# Altium footprint library DDS1.PcbLib: 136 footprints (part 1 of 9)
Each footprint in its own frame and in the unit in brackets; x right, y up, seen from the top. Pads: shape width x height; smd on the part's side, far side on the other; paste and mask are expansions set on the pad; w line width, h text height; cw(c..) or ccw(c..) is an arc to the next point about the centre after c.
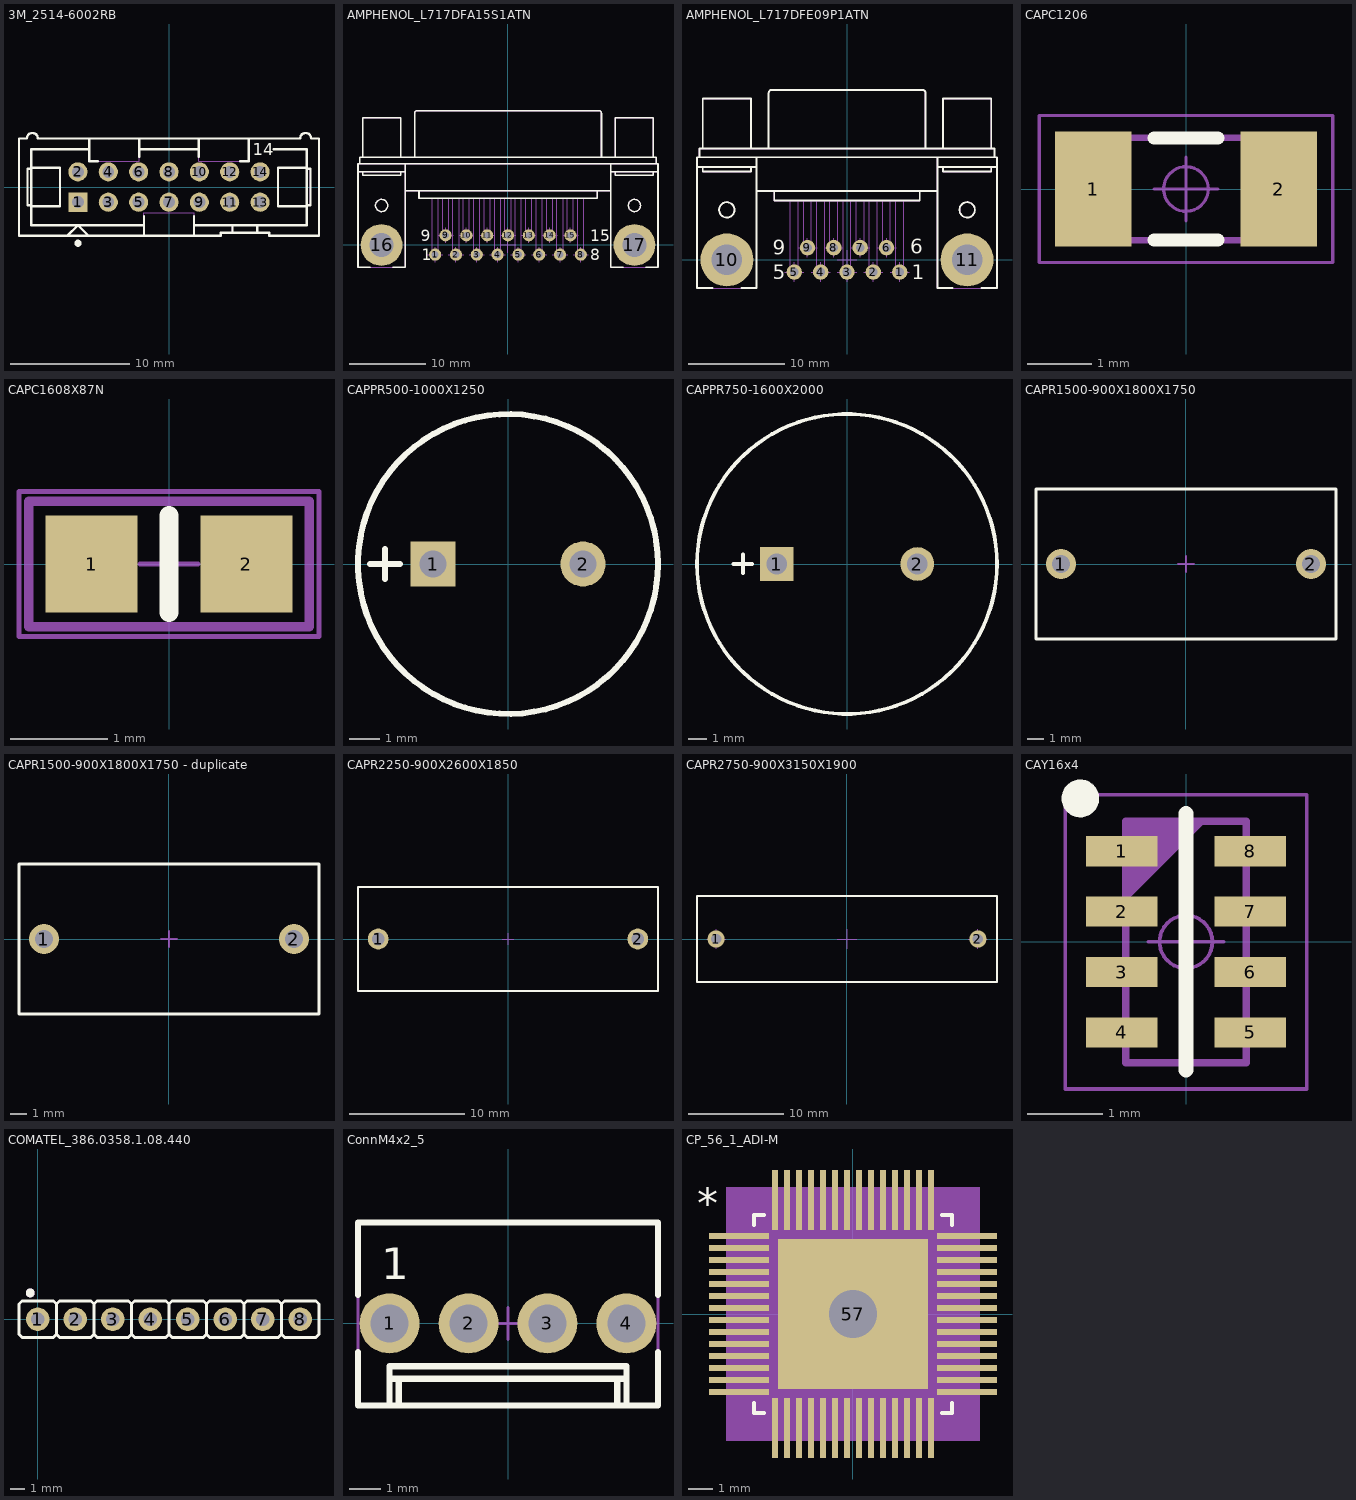
[diagram p0: the footprints below, top view; thin cyan lines are the x and y axes]

## 3M_2514-6002RB [mm] "14 Contacts - Straight .100\" x .100\" Low Profile Four-Wall Header"
height 10.03
pads (14):
  rect 1.6x1.6 hole 1: 1(-7.62,-1.27)
  round 1.6 hole 1: 2(-7.62,1.27) 3(-5.08,-1.27) 4(-5.08,1.27) 5(-2.54,-1.27) 6(-2.54,1.27) 7(0,-1.27) 8(0,1.27) 9(2.54,-1.27) 10(2.54,1.27) 11(5.08,-1.27) 12(5.08,1.27) 13(7.62,-1.27) 14(7.62,1.27)
Top Overlay:
  circle w0.3: c-7.62,-4.699 r0.15
  lines w0.2: -11.532,-1.603 -9.119,-1.603 -9.119,1.603 -11.532,1.603 ; -11.532,-1.524 -11.836,-1.524 -11.836,1.524 -11.532,1.524 ; -8.484,-4.064 -7.62,-3.2 -6.756,-4.064 ; -6.668,3.15 -11.532,3.15 -11.532,-3.2 -2.096,-3.2 ; -6.668,4.064 -6.668,2.159 -5.959,2.159 ; -2.477,2.518 -2.477,4.064 ; -2.477,3.15 2.476,3.15 ; -2.096,-4.064 -2.096,-2.438 ; 2.095,-4.064 2.095,-2.438 ; 2.095,-3.2 11.532,-3.2 11.532,3.15 8.763,3.15 ; 2.476,2.518 2.476,4.064 ; 5.309,-3.835 5.309,-3.2 ; 5.959,2.159 6.668,2.159 6.668,4.064 ; 7.391,-3.835 7.391,-3.2 ; 11.532,-1.603 9.119,-1.603 9.119,1.603 11.532,1.603 ; 11.532,-1.524 11.836,-1.524 11.836,1.524 11.532,1.524 ; -12.548,-4.064 4.318,-4.064 4.318,-3.835 8.382,-3.835 8.382,-4.064 12.548,-4.064 12.548,4.064 11.887,4.064 ccw(c11.43,4.064) 10.973,4.064 -10.973,4.064 ccw(c-11.43,4.064) -11.887,4.064 -12.548,4.064 -12.548,-4.064
  text "14" at 6.985,2.667 h1.02
Mechanical 14:
  lines w0.1: -11.532,-1.603 -9.119,-1.603 -9.119,1.603 -11.532,1.603 ; -11.532,-1.524 -11.836,-1.524 -11.836,1.524 -11.532,1.524 ; -8.484,-4.064 -7.62,-3.2 -6.756,-4.064 ; -6.668,3.15 -11.532,3.15 -11.532,-3.2 -2.096,-3.2 ; -6.668,4.064 -6.668,2.159 -2.477,2.159 -2.477,4.064 ; -2.477,3.15 2.476,3.15 ; -2.096,-4.064 -2.096,-2.159 2.095,-2.159 2.095,-4.064 ; 2.095,-3.2 11.532,-3.2 11.532,3.15 8.763,3.15 ; 2.476,4.064 2.476,2.159 6.668,2.159 6.668,4.064 ; 5.309,-3.835 5.309,-3.2 ; 7.391,-3.835 7.391,-3.2 ; 11.532,-1.603 9.119,-1.603 9.119,1.603 11.532,1.603 ; 11.532,-1.524 11.836,-1.524 11.836,1.524 11.532,1.524 ; -12.548,-4.064 4.318,-4.064 4.318,-3.835 8.382,-3.835 8.382,-4.064 12.548,-4.064 12.548,4.064 11.887,4.064 ccw(c11.43,4.064) 10.973,4.064 -10.973,4.064 ccw(c-11.43,4.064) -11.887,4.064 -12.548,4.064 -12.548,-4.064
  text "14" at 6.985,2.667 h1.02
3D body "3M_2514-6002RB.stp": height 9.65, standoff -2.59, extent -12.548,-4.572 12.548,4.064

## AM15E [mm] "TEN 15 Series , Body 50.8x25.4mm, Height 10.7mm"
height 10.7
pads (5):
  rect 1.8x1.8 hole 1.3: 1(0,0)
  round 1.8 hole 1.3: 2(0,5.08) 3(20.32,-7.62) 4(20.32,2.54) 5(20.32,12.7)
Top Layer:
  drawing of 50 lines, arcs and shapes, not listed
  text "Simmetricamente 2x2x68 &1n5" at -1259.84,-1267.46 h1.52
Top Overlay:
  lines w0.2: -15.24,-9.16 ccw(c-14.24,-9.16) -14.24,-10.16 34.56,-10.16 ccw(c34.56,-9.16) 35.56,-9.16 35.56,14.24 ccw(c34.56,14.24) 34.56,15.24 -14.24,15.24 ccw(c-14.24,14.24) -15.24,14.24 -15.24,-9.16
  text "+VIN" at -5.34,-0.56 h1.2
  text "+VOUT" at 21.72,-8.135 h1.2
  text "-VOUT" at 21.72,12.185 h1.2
  text "-VIN" at -5.34,4.44 h1.2
Mechanical 14:
  lines w0.1: -15.24,-9.16 ccw(c-14.24,-9.16) -14.24,-10.16 34.56,-10.16 ccw(c34.56,-9.16) 35.56,-9.16 35.56,14.24 ccw(c34.56,14.24) 34.56,15.24 -14.24,15.24 ccw(c-14.24,14.24) -15.24,14.24 -15.24,-9.16
  text "-VIN" at -5.34,4.44 h1.2
  text "+VIN" at -5.34,-0.56 h1.2
  text "-VOUT" at 21.72,12.185 h1.2
  text "+VOUT" at 21.72,-8.135 h1.2
Mechanical 15:
  lines w0.05: -15.74,-10.66 -15.74,15.74 36.06,15.74 36.06,-10.66 -15.74,-10.66
3D body "DCDC_TRACO_TEN15.stp": height 10.2, standoff -3.8, extent -15.24,-10.16 35.56,15.24

## AMPHENOL_L717DFA15S1ATN [mm] "Right Angled D-Sub 15 Female Contacts with Metal Bracket and Front Female Screwlock (UNC4-40)"
height 13.4
pads (17):
  round 1.6 hole 0.9: 1(-9.59,-1.27) 2(-6.85,-1.27) 3(-4.11,-1.27) 4(-1.37,-1.27) 5(1.37,-1.27) 6(4.11,-1.27) 7(6.85,-1.27) 8(9.59,-1.27) 9(-8.22,1.27) 10(-5.48,1.27) 11(-2.74,1.27) 12(0,1.27) 13(2.74,1.27) 14(5.48,1.27) 15(8.22,1.27)
  round 5.5 hole 3.2: 16(-16.65,0) 17(16.65,0)
Top Overlay:
  circle w0.2: c16.65,5.2 r0.8
  circle w0.2: c-16.65,5.2 r0.8
  lines w0.2: -19.5,10.67 -19.5,11.57 19.5,11.57 19.5,10.67 ; -19.15,9.67 -19.15,9.17 -14.15,9.17 -14.15,9.67 ; -19.15,11.57 -19.15,16.77 -14.15,16.77 -14.15,11.57 ; -18.15,-2.93 -19.75,-2.93 -19.75,10.67 19.75,10.67 19.75,-2.93 18.15,-2.93 ; -15.15,-2.93 -13.55,-2.93 -13.55,10.67 ; -13.689,9.67 -19.75,9.67 -13.55,9.67 ; -13.55,7.17 13.55,7.17 ; -12.292,11.57 -12.292,17.37 cw(c-11.992,17.37) -11.992,17.67 12.011,17.67 cw(c12.011,17.37) 12.311,17.37 12.311,11.57 ; -11.72,7.17 -11.72,6.17 11.72,6.17 11.72,7.17 ; 13.55,9.67 19.75,9.67 ; 13.55,10.67 13.55,-2.93 15.15,-2.93 ; 14.15,9.67 14.15,9.17 19.15,9.17 19.15,9.67 ; 14.15,11.57 14.15,16.77 19.15,16.77 19.15,11.57
  text "15" at 10.841,0.508 h1.5
  text "8" at 10.841,-2.032 h1.5
  text "1" at -11.349,-2.032 h1.5
  text "9" at -11.476,0.508 h1.5
Mechanical 8:
  lines w0.1: -17.65,0 -16.65,0 ; -16.65,-1 -16.65,0 ; -16.65,1 -16.65,0 ; -15.65,0 -16.65,0 ; -10.59,-1.27 -9.59,-1.27 ; -9.59,-2.27 -9.59,-1.27 ; -9.59,-0.27 -9.59,-1.27 ; -9.22,1.27 -8.22,1.27 ; -8.59,-1.27 -9.59,-1.27 ; -8.22,0.27 -8.22,1.27 ; -8.22,2.27 -8.22,1.27 ; -7.85,-1.27 -6.85,-1.27 ; -7.22,1.27 -8.22,1.27 ; -6.85,-2.27 -6.85,-1.27 ; -6.85,-0.27 -6.85,-1.27 ; -6.48,1.27 -5.48,1.27 ; -5.85,-1.27 -6.85,-1.27 ; -5.48,0.27 -5.48,1.27 ; -5.48,2.27 -5.48,1.27 ; -5.11,-1.27 -4.11,-1.27 ; -4.48,1.27 -5.48,1.27 ; -4.11,-2.27 -4.11,-1.27 ; -4.11,-0.27 -4.11,-1.27 ; -3.74,1.27 -2.74,1.27 ; -3.11,-1.27 -4.11,-1.27 ; -2.74,0.27 -2.74,1.27 ; -2.74,2.27 -2.74,1.27 ; -2.37,-1.27 -1.37,-1.27 ; -1.74,1.27 -2.74,1.27 ; -1.37,-2.27 -1.37,-1.27 ; -1.37,-0.27 -1.37,-1.27 ; -1,0 0,0 ; -1,1.27 0,1.27 ; -0.37,-1.27 -1.37,-1.27 ; 0,-1 0,0 ; 0,0.27 0,1.27 ; 0,1 0,0 ; 0,2.27 0,1.27 ; 0.37,-1.27 1.37,-1.27 ; 1,0 0,0 ; 1,1.27 0,1.27 ; 1.37,-2.27 1.37,-1.27 ; 1.37,-0.27 1.37,-1.27 ; 1.74,1.27 2.74,1.27 ; 2.37,-1.27 1.37,-1.27 ; 2.74,0.27 2.74,1.27 ; 2.74,2.27 2.74,1.27 ; 3.11,-1.27 4.11,-1.27 ; 3.74,1.27 2.74,1.27 ; 4.11,-2.27 4.11,-1.27 ; 4.11,-0.27 4.11,-1.27 ; 4.48,1.27 5.48,1.27 ; 5.11,-1.27 4.11,-1.27 ; 5.48,0.27 5.48,1.27 ; 5.48,2.27 5.48,1.27 ; 5.85,-1.27 6.85,-1.27 ; 6.48,1.27 5.48,1.27 ; 6.85,-2.27 6.85,-1.27 ; 6.85,-0.27 6.85,-1.27 ; 7.22,1.27 8.22,1.27 ; 7.85,-1.27 6.85,-1.27 ; 8.22,0.27 8.22,1.27 ; 8.22,2.27 8.22,1.27 ; 8.59,-1.27 9.59,-1.27 ; 9.22,1.27 8.22,1.27 ; 9.59,-2.27 9.59,-1.27 ; 9.59,-0.27 9.59,-1.27 ; 10.59,-1.27 9.59,-1.27 ; 15.65,0 16.65,0 ; 16.65,-1 16.65,0 ; 16.65,1 16.65,0 ; 17.65,0 16.65,0
Mechanical 14:
  circle w0.1: c16.65,0 r1.6
  circle w0.1: c16.65,5.2 r0.8
  circle w0.1: c-16.65,5.2 r0.8
  circle w0.1: c-16.65,0 r1.6
  lines w0.1: -19.5,10.67 -19.5,11.57 19.5,11.57 19.5,10.67 ; -19.15,9.67 -19.15,9.17 -14.15,9.17 -14.15,9.67 ; -19.15,11.57 -19.15,16.77 -14.15,16.77 -14.15,11.57 ; -13.689,9.67 -19.75,9.67 -13.55,9.67 ; -13.55,7.17 13.55,7.17 ; -13.55,10.67 -13.55,-2.93 -19.75,-2.93 -19.75,10.67 19.75,10.67 19.75,-2.93 13.55,-2.93 13.55,10.67 ; -12.292,11.57 -12.292,17.37 cw(c-11.992,17.37) -11.992,17.67 12.011,17.67 cw(c12.011,17.37) 12.311,17.37 12.311,11.57 ; -11.72,7.17 -11.72,6.17 11.72,6.17 11.72,7.17 ; -9.99,6.17 -9.99,-1.27 ccw(c-9.59,-1.27) -9.19,-1.27 -9.19,6.17 ; -8.62,6.17 -8.62,1.27 ccw(c-8.22,1.27) -7.82,1.27 -7.82,6.17 ; -7.25,6.17 -7.25,-1.27 ccw(c-6.85,-1.27) -6.45,-1.27 -6.45,6.17 ; -5.88,6.17 -5.88,1.27 ccw(c-5.48,1.27) -5.08,1.27 -5.08,6.17 ; -4.51,6.17 -4.51,-1.27 ccw(c-4.11,-1.27) -3.71,-1.27 -3.71,6.17 ; -3.14,6.17 -3.14,1.27 ccw(c-2.74,1.27) -2.34,1.27 -2.34,6.17 ; -1.77,6.17 -1.77,-1.27 ccw(c-1.37,-1.27) -0.97,-1.27 -0.97,6.17 ; -0.4,6.17 -0.4,1.27 ccw(c0,1.27) 0.4,1.27 0.4,6.17 ; 0.97,6.17 0.97,-1.27 ccw(c1.37,-1.27) 1.77,-1.27 1.77,6.17 ; 2.34,6.17 2.34,1.27 ccw(c2.74,1.27) 3.14,1.27 3.14,6.17 ; 3.71,6.17 3.71,-1.27 ccw(c4.11,-1.27) 4.51,-1.27 4.51,6.17 ; 5.08,6.17 5.08,1.27 ccw(c5.48,1.27) 5.88,1.27 5.88,6.17 ; 6.45,6.17 6.45,-1.27 ccw(c6.85,-1.27) 7.25,-1.27 7.25,6.17 ; 7.82,6.17 7.82,1.27 ccw(c8.22,1.27) 8.62,1.27 8.62,6.17 ; 9.19,6.17 9.19,-1.27 ccw(c9.59,-1.27) 9.99,-1.27 9.99,6.17 ; 13.55,9.67 19.75,9.67 ; 14.15,9.67 14.15,9.17 19.15,9.17 19.15,9.67 ; 14.15,11.57 14.15,16.77 19.15,16.77 19.15,11.57
3D body "AMPHENOL_L717DFA15S1ATN.stp": height 13.45, standoff -3.95, extent -19.75,-2.93 19.75,17.67

## AMPHENOL_L717DFE09P1ATN [mm] "Right Angled D-Sub 9 Male Contacts with Metal Bracket and Front Female Screwlock (UNC4-40)"
height 13.4
pads (11):
  round 1.6 hole 0.9: 1(5.48,-1.27) 2(2.74,-1.27) 3(0,-1.27) 4(-2.74,-1.27) 5(-5.48,-1.27) 6(4.11,1.27) 7(1.37,1.27) 8(-1.37,1.27) 9(-4.11,1.27)
  round 5.5 hole 3.2: 10(-12.495,0) 11(12.495,0)
Top Overlay:
  circle w0.2: c-12.5,5.2 r0.8
  circle w0.2: c12.5,5.2 r0.8
  lines w0.2: -15.35,10.67 -15.35,11.57 15.35,11.57 15.35,10.67 ; -15,9.67 -15,9.17 -10,9.17 -10,9.67 ; -15,11.57 -15,16.77 -10,16.77 -10,11.57 ; -14,-2.93 -15.6,-2.93 -15.6,10.67 15.6,10.67 15.6,-2.93 14,-2.93 ; -11,-2.93 -9.4,-2.93 -9.4,10.67 ; -9.539,9.67 -15.6,9.67 -9.4,9.67 ; -9.4,7.17 9.4,7.17 ; -8.142,11.57 -8.142,17.37 cw(c-7.842,17.37) -7.842,17.67 7.861,17.67 cw(c7.861,17.37) 8.161,17.37 8.161,11.57 ; -7.57,7.17 -7.57,6.17 7.57,6.17 7.57,7.17 ; 9.4,9.67 15.6,9.67 ; 9.4,10.67 9.4,-2.93 11,-2.93 ; 10,9.67 10,9.17 15,9.17 15,9.67 ; 10,11.57 10,16.77 15,16.77 15,11.57
  text "6" at 6.604,0.635 h1.5
  text "5" at -7.747,-2.032 h1.5
  text "1" at 6.731,-2.032 h1.5
  text "9" at -7.747,0.508 h1.5
Mechanical 8:
  lines w0.1: -13.5,0 -12.5,0 ; -12.5,-1 -12.5,0 ; -12.5,1 -12.5,0 ; -11.5,0 -12.5,0 ; -6.48,-1.27 -5.48,-1.27 ; -5.48,-2.27 -5.48,-1.27 ; -5.48,-0.27 -5.48,-1.27 ; -5.11,1.27 -4.11,1.27 ; -4.48,-1.27 -5.48,-1.27 ; -4.11,0.27 -4.11,1.27 ; -4.11,2.27 -4.11,1.27 ; -3.74,-1.27 -2.74,-1.27 ; -3.11,1.27 -4.11,1.27 ; -2.74,-2.27 -2.74,-1.27 ; -2.74,-0.27 -2.74,-1.27 ; -2.37,1.27 -1.37,1.27 ; -1.74,-1.27 -2.74,-1.27 ; -1.37,0.27 -1.37,1.27 ; -1.37,2.27 -1.37,1.27 ; -1,-1.27 0,-1.27 ; -1,0 0,0 ; -0.37,1.27 -1.37,1.27 ; 0,-2.27 0,-1.27 ; 0,-1 0,0 ; 0,-0.27 0,-1.27 ; 0,1 0,0 ; 0.37,1.27 1.37,1.27 ; 1,-1.27 0,-1.27 ; 1,0 0,0 ; 1.37,0.27 1.37,1.27 ; 1.37,2.27 1.37,1.27 ; 1.74,-1.27 2.74,-1.27 ; 2.37,1.27 1.37,1.27 ; 2.74,-2.27 2.74,-1.27 ; 2.74,-0.27 2.74,-1.27 ; 3.11,1.27 4.11,1.27 ; 3.74,-1.27 2.74,-1.27 ; 4.11,0.27 4.11,1.27 ; 4.11,2.27 4.11,1.27 ; 4.48,-1.27 5.48,-1.27 ; 5.11,1.27 4.11,1.27 ; 5.48,-2.27 5.48,-1.27 ; 5.48,-0.27 5.48,-1.27 ; 6.48,-1.27 5.48,-1.27 ; 11.5,0 12.5,0 ; 12.5,-1 12.5,0 ; 12.5,1 12.5,0 ; 13.5,0 12.5,0
Mechanical 14:
  circle w0.1: c-12.5,0 r1.6
  circle w0.1: c-12.5,5.2 r0.8
  circle w0.1: c12.5,5.2 r0.8
  circle w0.1: c12.5,0 r1.6
  lines w0.1: -15.35,10.67 -15.35,11.57 15.35,11.57 15.35,10.67 ; -15,9.67 -15,9.17 -10,9.17 -10,9.67 ; -15,11.57 -15,16.77 -10,16.77 -10,11.57 ; -9.539,9.67 -15.6,9.67 -9.4,9.67 ; -9.4,7.17 9.4,7.17 ; -9.4,10.67 -9.4,-2.93 -15.6,-2.93 -15.6,10.67 15.6,10.67 15.6,-2.93 9.4,-2.93 9.4,10.67 ; -8.142,11.57 -8.142,17.37 cw(c-7.842,17.37) -7.842,17.67 7.861,17.67 cw(c7.861,17.37) 8.161,17.37 8.161,11.57 ; -7.57,7.17 -7.57,6.17 7.57,6.17 7.57,7.17 ; -5.88,6.17 -5.88,-1.27 ccw(c-5.48,-1.27) -5.08,-1.27 -5.08,6.17 ; -4.51,6.17 -4.51,1.27 ccw(c-4.11,1.27) -3.71,1.27 -3.71,6.17 ; -3.14,6.17 -3.14,-1.27 ccw(c-2.74,-1.27) -2.34,-1.27 -2.34,6.17 ; -1.77,6.17 -1.77,1.27 ccw(c-1.37,1.27) -0.97,1.27 -0.97,6.17 ; -0.4,6.17 -0.4,-1.27 ccw(c0,-1.27) 0.4,-1.27 0.4,6.17 ; 0.97,6.17 0.97,1.27 ccw(c1.37,1.27) 1.77,1.27 1.77,6.17 ; 2.34,6.17 2.34,-1.27 ccw(c2.74,-1.27) 3.14,-1.27 3.14,6.17 ; 3.71,6.17 3.71,1.27 ccw(c4.11,1.27) 4.51,1.27 4.51,6.17 ; 5.08,6.17 5.08,-1.27 ccw(c5.48,-1.27) 5.88,-1.27 5.88,6.17 ; 9.4,9.67 15.6,9.67 ; 10,9.67 10,9.17 15,9.17 15,9.67 ; 10,11.57 10,16.77 15,16.77 15,11.57
3D body "AMPHENOL_L717DFE09P1ATN.stp": height 13.45, standoff -3.95, extent -15.6,-2.93 15.6,17.67

## CAPC1206 [mm]
pads (2):
  rect 1.2x1.8 smd: 1(-1.45,0) 2(1.45,0)
Top Overlay:
  lines w0.2: -0.5,-0.8 0.5,-0.8 ; -0.5,0.8 0.5,0.8
Mechanical 14:
  lines w0.1: -1.6,-0.8 1.6,-0.8 1.6,0.8 -1.6,0.8 -1.6,-0.8
Mechanical 15:
  circle w0.05: c0,0 r0.35
  lines w0.05: -0.5,0 0.5,0 ; 0,-0.5 0,0.5 ; -2.3,-1.15 2.3,-1.15 2.3,1.15 -2.3,1.15 -2.3,-1.15
3D body "CAPC3216X70N.stp": height 0.7, standoff 0, extent -1.7,-0.9 1.7,0.9

## CAPC1608X87N [mm]
pads (2):
  rect 0.95x1 smd: 1(-0.8,0) 2(0.8,0)
Top Overlay:
  lines w0.2: 0,-0.5 0,0.5
Mechanical 14:
  lines w0.1: -1.45,-0.65 -1.45,0.65 1.45,0.65 1.45,-0.65 -1.45,-0.65
Mechanical 15:
  lines w0.05: -0.3,0 0.3,0 ; 0,-0.3 0,0.3 ; -1.55,-0.75 1.55,-0.75 1.55,0.75 -1.55,0.75 -1.55,-0.75
3D body "CAPC1608X87N.stp": height 0.87, standoff 0, extent -0.875,-0.475 0.875,0.475

## CAPPR500-1000X1250 [mm] "Capacitor, Radial, Pin spacing 5.0mm - Body Diameter 10.0mm X Body Height 12.5mm"
height 12.5
pads (2):
  rect 1.5x1.5 hole 0.9: 1(-2.5,0)
  round 1.5 hole 0.9: 2(2.5,0)
Top Overlay:
  circle w0.2: c0,0 r5
  lines w0.2: -4.6,0 -3.6,0 ; -4.1,-0.5 -4.1,0.5
Mechanical 13:
  circle w0.1: c0,0 r5
Mechanical 14:
  circle w0.1: c0,0 r5
  lines w0.1: -4.6,0 -3.6,0 ; -4.1,-0.5 -4.1,0.5
3D body "CAPPR500-1000X1250.stp": height 12.5, standoff -3.6, extent -5.01,-5.01 4.99,4.956

## CAPPR750-1600X2000 [mm] "Capacitor, Radial, Pin spacing 7.5mm - Body Diameter 16.0mm X Body  Height 20.0mm"
height 20
pads (2):
  rect 1.8x1.8 hole 1.1: 1(-3.75,0)
  round 1.8 hole 1.1: 2(3.75,0)
Top Overlay:
  circle w0.2: c0,0 r8
  lines w0.2: -6.05,0 -5.05,0 ; -5.55,-0.5 -5.55,0.5
Mechanical 13:
  circle w0.1: c0,0 r8
Mechanical 14:
  circle w0.1: c0,0 r8
  lines w0.1: -6.05,0 -5.05,0 ; -5.55,-0.5 -5.55,0.5
3D body "CAPPR750-1600X2000.stp": height 20, standoff -3.6, extent -8,-8 8,8

## CAPR1500-900X1800X1750 [mm] "Capacitor Radial, Pin spacing 15.0mm - Body Width 9mm X Body Length 18mm X Body Height 17.5mm"
height 17.5
pads (2):
  round 1.8 hole 1.1: 1(-7.5,0) 2(7.5,0)
Top Overlay:
  lines w0.2: -9,-4.5 -9,4.5 9,4.5 9,-4.5 -9,-4.5
Mechanical 8:
  lines w0.1: -8,0 -7.5,0 ; -7.5,-0.5 -7.5,0 ; -7.5,0.5 -7.5,0 ; -7,0 -7.5,0 ; -0.5,0 0,0 ; 0,-0.5 0,0 ; 0,0.5 0,0 ; 0.5,0 0,0 ; 7,0 7.5,0 ; 7.5,-0.5 7.5,0 ; 7.5,0.5 7.5,0 ; 8,0 7.5,0
Mechanical 14:
  lines w0.1: -9,-4.5 -9,4.5 9,4.5 9,-4.5 -9,-4.5
3D body "CAPR1500-900X1800X1750.stp": height 17.5, standoff -3.2, extent -9,-4.5 9,4.5

## CAPR1500-900X1800X1750 - duplicate [mm] "Capacitor Radial, Pin spacing 15.0mm - Body Width 9mm X Body Length 18mm X Body Height 17.5mm"
height 17.5
pads (2):
  round 1.8 hole 1.1: 1(-7.5,0) 2(7.5,0)
Top Overlay:
  lines w0.2: -9,-4.5 9,-4.5 9,4.5 -9,4.5 -9,-4.5
Mechanical 8:
  lines w0.1: -8,0 -7.5,0 ; -7.5,-0.5 -7.5,0 ; -7.5,0.5 -7.5,0 ; -7,0 -7.5,0 ; -0.5,0 0,0 ; 0,-0.5 0,0 ; 0,0.5 0,0 ; 0.5,0 0,0 ; 7,0 7.5,0 ; 7.5,-0.5 7.5,0 ; 7.5,0.5 7.5,0 ; 8,0 7.5,0
Mechanical 14:
  lines w0.1: -9,-4.5 9,-4.5 9,4.5 -9,4.5 -9,-4.5
3D body "CAPR1500-900X1800X1750.stp": height 17.5, standoff -3.2, extent -9,-4.5 9,4.5

## CAPR2250-900X2600X1850 [mm] "Capacitor Radial, Pin spacing 22.5mm - Body With 9mm X Body Length 26mm X Body Height 18.5mm"
height 18.5
pads (2):
  round 1.8 hole 1.1: 1(-11.25,0) 2(11.25,0)
Top Overlay:
  lines w0.2: -13,-4.5 13,-4.5 13,4.5 -13,4.5 -13,-4.5
Mechanical 8:
  lines w0.1: -11.75,0 -11.25,0 ; -11.25,-0.5 -11.25,0 ; -11.25,0.5 -11.25,0 ; -10.75,0 -11.25,0 ; -0.5,0 0,0 ; 0,-0.5 0,0 ; 0,0.5 0,0 ; 0.5,0 0,0 ; 10.75,0 11.25,0 ; 11.25,-0.5 11.25,0 ; 11.25,0.5 11.25,0 ; 11.75,0 11.25,0
Mechanical 14:
  lines w0.1: -13,-4.5 13,-4.5 13,4.5 -13,4.5 -13,-4.5
3D body "CAPR2250-900X2600X1850.stp": height 18.5, standoff -3.5, extent -13,-4.5 13,4.5

## CAPR2750-900X3150X1900 [mm] "Capacitor Radial, Pin spacing 27.5mm - Body Width 9mm X Body Length 31.5mm X Body Height 19mm"
height 19
pads (2):
  round 1.8 hole 1.1: 1(-13.75,0) 2(13.75,0)
Top Overlay:
  lines w0.2: -15.75,-4.5 -15.75,4.5 15.75,4.5 15.75,-4.5 -15.75,-4.5
Mechanical 8:
  lines w0.1: -14.75,0 -13.75,0 ; -13.75,-1 -13.75,0 ; -13.75,1 -13.75,0 ; -12.75,0 -13.75,0 ; -1,0 0,0 ; 0,-1 0,0 ; 0,1 0,0 ; 1,0 0,0 ; 12.75,0 13.75,0 ; 13.75,-1 13.75,0 ; 13.75,1 13.75,0 ; 14.75,0 13.75,0
Mechanical 14:
  lines w0.1: -15.75,-4.5 -15.75,4.5 15.75,4.5 15.75,-4.5 -15.75,-4.5
3D body "CAPR2750-900X3150X1900.stp": height 19, standoff -3.8, extent -15.75,-4.5 15.75,4.5

## CAY16x4 [mm] "Capacitor, Non-Polarized,Chip Array, 0.80mm Pitch; 8 Pin, 1.6mm W X 3.20mm L X 0.90mm H, IPC Medium Density"
height 0.9
pads (8):
  rect 0.95x0.4 smd: 1(-0.85,1.2) 2(-0.85,0.4) 3(-0.85,-0.4) 4(-0.85,-1.2) 5(0.85,-1.2) 6(0.85,-0.4) 7(0.85,0.4) 8(0.85,1.2)
Top Overlay:
  circle w0.25: c-1.4,1.9 r0.125
  lines w0.2: 0,-1.7 0,1.7
Mechanical 14:
  lines w0.1: -0.8,0.6 0.2,1.6 ; -0.8,0.7 0.1,1.6 ; -0.8,0.8 0,1.6 ; -0.8,0.9 -0.1,1.6 ; -0.8,1 -0.2,1.6 ; -0.8,1.1 -0.3,1.6 ; -0.8,1.2 -0.4,1.6 ; -0.8,1.3 -0.5,1.6 ; -0.8,1.4 -0.6,1.6 ; -0.8,1.5 -0.7,1.6 ; -0.8,-1.6 -0.8,1.6 0.8,1.6 0.8,-1.6 -0.8,-1.6
Mechanical 15:
  circle w0.05: c0,0 r0.35
  lines w0.05: -0.5,0 0.5,0 ; 0,-0.5 0,0.5 ; -1.6,-1.95 -1.6,1.95 1.6,1.95 1.6,-1.95 -1.6,-1.95
3D body "CAPCAF80P160X320X90-8N.stp": height 0.9, standoff 0, extent -0.875,-1.675 0.875,1.675

## COMATEL_386.0358.1.08.440 [mm] "8 Contacts Straight Strip Header Pitch 2.54mm L=6.3mm ''Mini-Wire-Wrap''"
height 8
pads (8):
  round 1.6 hole 0.9: 1(0,0) 2(2.54,0) 3(5.08,0) 4(7.62,0) 5(10.16,0) 6(12.7,0) 7(15.24,0) 8(17.78,0)
Top Overlay:
  circle w0.3: c-0.508,1.778 r0.15
  lines w0.2: 1.27,-1.025 1.47,-1.225 3.61,-1.225 3.81,-1.025 ; 1.27,-1.025 1.27,1.025 ; 1.27,-1.025 1.07,-1.225 -1.07,-1.225 -1.27,-1.025 -1.27,1.025 -1.07,1.225 1.07,1.225 1.27,1.025 ; 1.27,1.025 1.47,1.225 3.61,1.225 3.81,1.025 ; 3.81,-1.025 4.01,-1.225 6.15,-1.225 6.35,-1.025 ; 3.81,-1.025 3.81,1.025 ; 3.81,1.025 4.01,1.225 6.15,1.225 6.35,1.025 ; 6.35,-1.025 6.55,-1.225 8.69,-1.225 8.89,-1.025 ; 6.35,-1.025 6.35,1.025 ; 6.35,1.025 6.55,1.225 8.69,1.225 8.89,1.025 ; 8.89,-1.025 9.09,-1.225 11.23,-1.225 11.43,-1.025 ; 8.89,-1.025 8.89,1.025 ; 8.89,1.025 9.09,1.225 11.23,1.225 11.43,1.025 ; 11.43,-1.025 11.63,-1.225 13.77,-1.225 13.97,-1.025 ; 11.43,-1.025 11.43,1.025 ; 11.43,1.025 11.63,1.225 13.77,1.225 13.97,1.025 ; 13.97,-1.025 14.17,-1.225 16.31,-1.225 16.51,-1.025 ; 13.97,-1.025 13.97,1.025 ; 13.97,1.025 14.17,1.225 16.31,1.225 16.51,1.025 ; 16.51,-1.025 16.71,-1.225 18.85,-1.225 19.05,-1.025 19.05,1.025 18.85,1.225 16.71,1.225 16.51,1.025 ; 16.51,-1.025 16.51,1.025
Mechanical 14:
  circle w0.3: c-0.508,1.778 r0.15
  lines w0.1: 1.27,-1.025 1.47,-1.225 3.61,-1.225 3.81,-1.025 ; 1.27,-1.025 1.07,-1.225 -1.07,-1.225 -1.27,-1.025 -1.27,1.025 -1.07,1.225 1.07,1.225 1.27,1.025 ; 1.27,-1.025 1.27,1.025 ; 1.27,1.025 1.47,1.225 3.61,1.225 3.81,1.025 ; 3.81,-1.025 4.01,-1.225 6.15,-1.225 6.35,-1.025 ; 3.81,-1.025 3.81,1.025 ; 3.81,1.025 4.01,1.225 6.15,1.225 6.35,1.025 ; 6.35,-1.025 6.55,-1.225 8.69,-1.225 8.89,-1.025 ; 6.35,-1.025 6.35,1.025 ; 6.35,1.025 6.55,1.225 8.69,1.225 8.89,1.025 ; 8.89,-1.025 9.09,-1.225 11.23,-1.225 11.43,-1.025 ; 8.89,-1.025 8.89,1.025 ; 8.89,1.025 9.09,1.225 11.23,1.225 11.43,1.025 ; 11.43,-1.025 11.63,-1.225 13.77,-1.225 13.97,-1.025 ; 11.43,-1.025 11.43,1.025 ; 11.43,1.025 11.63,1.225 13.77,1.225 13.97,1.025 ; 13.97,-1.025 14.17,-1.225 16.31,-1.225 16.51,-1.025 ; 13.97,-1.025 13.97,1.025 ; 13.97,1.025 14.17,1.225 16.31,1.225 16.51,1.025 ; 16.51,-1.025 16.71,-1.225 18.85,-1.225 19.05,-1.025 19.05,1.025 18.85,1.225 16.71,1.225 16.51,1.025 ; 16.51,-1.025 16.51,1.025
3D body "COMATEL_386.0358.1.08.440.stp": height 8, standoff -3.2, extent -1.27,-1.225 19.05,1.225

## ConnM4x2_5 [mm] "2.5mm (.100\") Pitch KK® Header, Single Row, Vertical, 4 Circuits"
height 11.7
pads (4):
  round 1.9 hole 1.2: 1(-3.75,0) 2(-1.25,0) 3(1.25,0) 4(3.75,0)
Top Overlay:
  lines w0.2: -4.75,-0.907 -4.75,-2.6 4.75,-2.6 4.75,-0.907 ; -4.75,0.907 -4.75,3.2 4.75,3.2 4.75,0.907 ; -3.75,-2.6 -3.75,-1.35 3.75,-1.35 3.75,-2.6 ; -3.75,-1.75 3.75,-1.75 ; -3.459,-2.6 -3.459,-1.75 ; 3.459,-2.6 3.459,-1.75
  text "1" at -4.02,1.395 h1
Mechanical 8:
  lines w0.1: -4.25,0 -3.75,0 ; -3.75,-0.5 -3.75,0 ; -3.75,0.5 -3.75,0 ; -3.25,0 -3.75,0 ; -1.75,0 -1.25,0 ; -1.25,-0.5 -1.25,0 ; -1.25,0.5 -1.25,0 ; -0.75,0 -1.25,0 ; -0.5,0 0,0 ; 0,-0.5 0,0 ; 0,0.5 0,0 ; 0.5,0 0,0 ; 0.75,0 1.25,0 ; 1.25,-0.5 1.25,0 ; 1.25,0.5 1.25,0 ; 1.75,0 1.25,0 ; 3.25,0 3.75,0 ; 3.75,-0.5 3.75,0 ; 3.75,0.5 3.75,0 ; 4.25,0 3.75,0
Mechanical 14:
  lines w0.1: -3.75,-2.6 -3.75,-1.35 3.75,-1.35 3.75,-2.6 ; -3.75,-1.75 3.75,-1.75 ; -3.459,-2.6 -3.459,-1.75 ; 3.459,-2.6 3.459,-1.75 ; -4.75,-2.6 4.75,-2.6 4.75,3.2 -4.75,3.2 -4.75,-2.6
  text "1" at -4.02,1.395 h1
3D body "MOLEX_22-04-1041.stp": height 11.7, standoff -3.4, extent -4.75,-2.6 4.75,3.2

## CP_56_1_ADI-M [mm]
pads (57):
  rect 2.508x0.255 smd paste+0 mask+0: 1(-4.747,3.25) 2(-4.747,2.75) 3(-4.747,2.25) 4(-4.747,1.75) 5(-4.747,1.25) 6(-4.747,0.75) 7(-4.747,0.25) 8(-4.747,-0.25) 9(-4.747,-0.75) 10(-4.747,-1.25) 11(-4.747,-1.75) 12(-4.747,-2.25) 13(-4.747,-2.75) 14(-4.747,-3.25) 29(4.747,-3.25) 30(4.747,-2.75) 31(4.747,-2.25) 32(4.747,-1.75) 33(4.747,-1.25) 34(4.747,-0.75) 35(4.747,-0.25) 36(4.747,0.25) 37(4.747,0.75) 38(4.747,1.25) 39(4.747,1.75) 40(4.747,2.25) 41(4.747,2.75) 42(4.747,3.25)
  rect 0.255x2.508 smd paste+0 mask+0: 15(-3.25,-4.747) 16(-2.75,-4.747) 17(-2.25,-4.747) 18(-1.75,-4.747) 19(-1.25,-4.747) 20(-0.75,-4.747) 21(-0.25,-4.747) 22(0.25,-4.747) 23(0.75,-4.747) 24(1.25,-4.747) 25(1.75,-4.747) 26(2.25,-4.747) 27(2.75,-4.747) 28(3.25,-4.747) 43(3.25,4.747) 44(2.75,4.747) 45(2.25,4.747) 46(1.75,4.747) 47(1.25,4.747) 48(0.75,4.747) 49(0.25,4.747) 50(-0.25,4.747) 51(-0.75,4.747) 52(-1.25,4.747) 53(-1.75,4.747) 54(-2.25,4.747) 55(-2.75,4.747) 56(-3.25,4.747)
  rect 6.248x6.248 hole 2 paste-3.111 mask+0: 57(0,0)
Top Overlay:
  lines w0.152: -4.127,-3.71 -4.127,-4.127 -3.71,-4.127 ; -4.127,3.71 -4.127,4.127 -3.71,4.127 ; 3.71,-4.127 4.127,-4.127 4.127,-3.71 ; 3.71,4.127 4.127,4.127 4.127,3.71
  text "*" at -6.5,4 h1.27
Top Paste:
  region: -1.662,3.024 -3.024,3.024 -3.024,1.662 -1.662,1.662
  region: -1.662,1.462 -3.024,1.462 -3.024,0.1 -1.662,0.1
  region: -1.662,-0.1 -3.024,-0.1 -3.024,-1.462 -1.662,-1.462
  region: -1.662,-1.662 -3.024,-1.662 -3.024,-3.024 -1.662,-3.024
  region: -0.1,3.024 -1.462,3.024 -1.462,1.662 -0.1,1.662
  region: -0.1,1.462 -1.462,1.462 -1.462,0.1 -0.1,0.1
  region: -0.1,-0.1 -1.462,-0.1 -1.462,-1.462 -0.1,-1.462
  region: -0.1,-1.662 -1.462,-1.662 -1.462,-3.024 -0.1,-3.024
  region: 1.462,3.024 0.1,3.024 0.1,1.662 1.462,1.662
  region: 1.462,1.462 0.1,1.462 0.1,0.1 1.462,0.1
  region: 1.462,-0.1 0.1,-0.1 0.1,-1.462 1.462,-1.462
  region: 1.462,-1.662 0.1,-1.662 0.1,-3.024 1.462,-3.024
  region: 3.024,3.024 1.662,3.024 1.662,1.662 3.024,1.662
  region: 3.024,1.462 1.662,1.462 1.662,0.1 3.024,0.1
  region: 3.024,-0.1 1.662,-0.1 1.662,-1.462 3.024,-1.462
  region: 3.024,-1.662 1.662,-1.662 1.662,-3.024 3.024,-3.024
Mechanical 5:
  region: 5.289,-5.289 -5.289,-5.289 -5.289,5.289 5.289,5.289
Mechanical 13:
  lines w0.025: -4,2.73 -2.73,4 ; -4,-4 4,-4 4,4 -4,4 -4,-4 ; -4,-3.402 -4,-3.098 -4,-3.402 ; -4,-2.902 -4,-2.598 -4,-2.902 ; -4,-2.402 -4,-2.098 -4,-2.402 ; -4,-1.902 -4,-1.598 -4,-1.902 ; -4,-1.402 -4,-1.098 -4,-1.402 ; -4,-0.902 -4,-0.598 -4,-0.902 ; -4,-0.402 -4,-0.098 -4,-0.402 ; -4,0.098 -4,0.402 -4,0.098 ; -4,0.598 -4,0.902 -4,0.598 ; -4,1.098 -4,1.402 -4,1.098 ; -4,1.598 -4,1.902 -4,1.598 ; -4,2.098 -4,2.402 -4,2.098 ; -4,2.598 -4,2.902 -4,2.598 ; -4,3.098 -4,3.402 -4,3.098 ; -3.402,-4 -3.098,-4 -3.402,-4 ; -3.402,4 -3.098,4 -3.402,4 ; -2.902,-4 -2.598,-4 -2.902,-4 ; -2.902,4 -2.598,4 -2.902,4 ; -2.402,-4 -2.098,-4 -2.402,-4 ; -2.402,4 -2.098,4 -2.402,4 ; -1.902,-4 -1.598,-4 -1.902,-4 ; -1.902,4 -1.598,4 -1.902,4 ; -1.402,-4 -1.098,-4 -1.402,-4 ; -1.402,4 -1.098,4 -1.402,4 ; -0.902,-4 -0.598,-4 -0.902,-4 ; -0.902,4 -0.598,4 -0.902,4 ; -0.402,-4 -0.098,-4 -0.402,-4 ; -0.402,4 -0.098,4 -0.402,4 ; 0.098,-4 0.402,-4 0.098,-4 ; 0.098,4 0.402,4 0.098,4 ; 0.598,-4 0.902,-4 0.598,-4 ; 0.598,4 0.902,4 0.598,4 ; 1.098,-4 1.402,-4 1.098,-4 ; 1.098,4 1.402,4 1.098,4 ; 1.598,-4 1.902,-4 1.598,-4 ; 1.598,4 1.902,4 1.598,4 ; 2.098,-4 2.402,-4 2.098,-4 ; 2.098,4 2.402,4 2.098,4 ; 2.598,-4 2.902,-4 2.598,-4 ; 2.598,4 2.902,4 2.598,4 ; 3.098,-4 3.402,-4 3.098,-4 ; 3.098,4 3.402,4 3.098,4 ; 4,-3.402 4,-3.098 4,-3.402 ; 4,-2.902 4,-2.598 4,-2.902 ; 4,-2.402 4,-2.098 4,-2.402 ; 4,-1.902 4,-1.598 4,-1.902 ; 4,-1.402 4,-1.098 4,-1.402 ; 4,-0.902 4,-0.598 4,-0.902 ; 4,-0.402 4,-0.098 4,-0.402 ; 4,0.098 4,0.402 4,0.098 ; 4,0.598 4,0.902 4,0.598 ; 4,1.098 4,1.402 4,1.098 ; 4,1.598 4,1.902 4,1.598 ; 4,2.098 4,2.402 4,2.098 ; 4,2.598 4,2.902 4,2.598 ; 4,3.098 4,3.402 4,3.098
  text "*" at -3.81,2.865 h1.27
Mechanical 15:
  region: -3.885,-4.508 -4.508,-4.508 -4.508,-3.885 -4.908,-3.885 -4.908,3.885 -4.508,3.885 -4.508,4.508 -3.885,4.508 -3.885,4.908 3.885,4.908 3.885,4.508 4.508,4.508 4.508,3.885 4.908,3.885 4.908,-3.885 4.508,-3.885 4.508,-4.508 3.885,-4.508 3.885,-4.908 -3.885,-4.908
  lines w0.152: -4.908,-3.885 -4.508,-3.885 -4.508,-4.508 -3.885,-4.508 -3.885,-4.908 3.885,-4.908 3.885,-4.508 4.508,-4.508 4.508,-3.885 4.908,-3.885 4.908,3.885 4.508,3.885 4.508,4.508 3.885,4.508 3.885,4.908 -3.885,4.908 -3.885,4.508 -4.508,4.508 -4.508,3.885 -4.908,3.885 -4.908,-3.885
3D body "CP_56_1_ADI.step": height 0.99, standoff 0, extent -4,-4 4,4